# Altium schematic symbol library MICROFONES.SchLib: 2 symbols
Pins are listed as number, name and electrical type; pins without a type are passive.

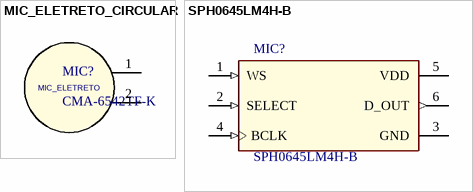
[diagram p0: symbols MIC_ELETRETO_CIRCULAR to SPH0645LM4H-B]

## MIC_ELETRETO_CIRCULAR
designator MIC?, comment CMA-6542TF-K
Fabricante: Dispositivos CUI; Footprint: SMD; MPN: CMA-6542TF-K; Valor: CMA-6542TF-K
footprint MIC_ELETRETO_CIRCULAR (PART NUMBER: CMA-6542TF-K / electret condenser microphone / sensitivity (S) -42 ±2 dB / operating voltage 1.5 V dc (standard), 10 V dc (max.) / output impedance (Zout) 1.5 K? / operating frequency (f) 100 ~ 20,000 Hz / signal to noise ratio (S/N) 58 dBA)
footprint MIC_ELETRETO_CMA-6542PF (MICROPHONE COND ANALOG OMNI PTH)
pins: 1 +MIC, 2 -MIC
text: MIC_ELETRETO

## SPH0645LM4H-B
designator MIC?
I2S Output Digital Microphone ~ 20Hz ~ 10kHz Digital, Microfone I2S MEMS _Silicone_ 1,62V ~ 3,6V Omnidirecional _-26dB Â± 3dB @ 94dB SPL_ Almofadas de solda /; Fabricante: Knowles; Footprint: SMD / SMT; MPN: SPH0645LM4H-B; Value: SPH0645LM4H-B; ComponentLink1Description: Loja; ComponentLink1URL: https://www.digikey.com/product-detail/en/knowles/SPH0645LM4H-B/423-1405-1-ND/5332432; ComponentLink2Description: Datasheet; ComponentLink2URL: https://media.digikey.com/pdf/Data%20Sheets/Knowles%20Acoustics%20PDFs/SPH0645LM4H-B.pdf
footprint MIC_SPH0645LM4H-B (I2S Output Digital Microphone ~ 20Hz ~ 10kHz Digital, Microfone I2S MEMS _Silicone_ 1,62V ~ 3,6V Omnidirecional _-26dB Â± 3dB @ 94dB SPL_ Almofadas de solda)
pins: 1 WS (in), 2 SELECT (in), 3 GND (power), 4 BCLK (in), 5 VDD (power), 6 D_OUT (out)